# Altium footprint library Smirnov.PcbLib: 63 footprints (part 2 of 4)
Each footprint in its own frame and in the unit in brackets; x right, y up, seen from the top. Pads: shape width x height; smd on the part's side, far side on the other; paste and mask are expansions set on the pad; w line width, h text height; cw(c..) or ccw(c..) is an arc to the next point about the centre after c.
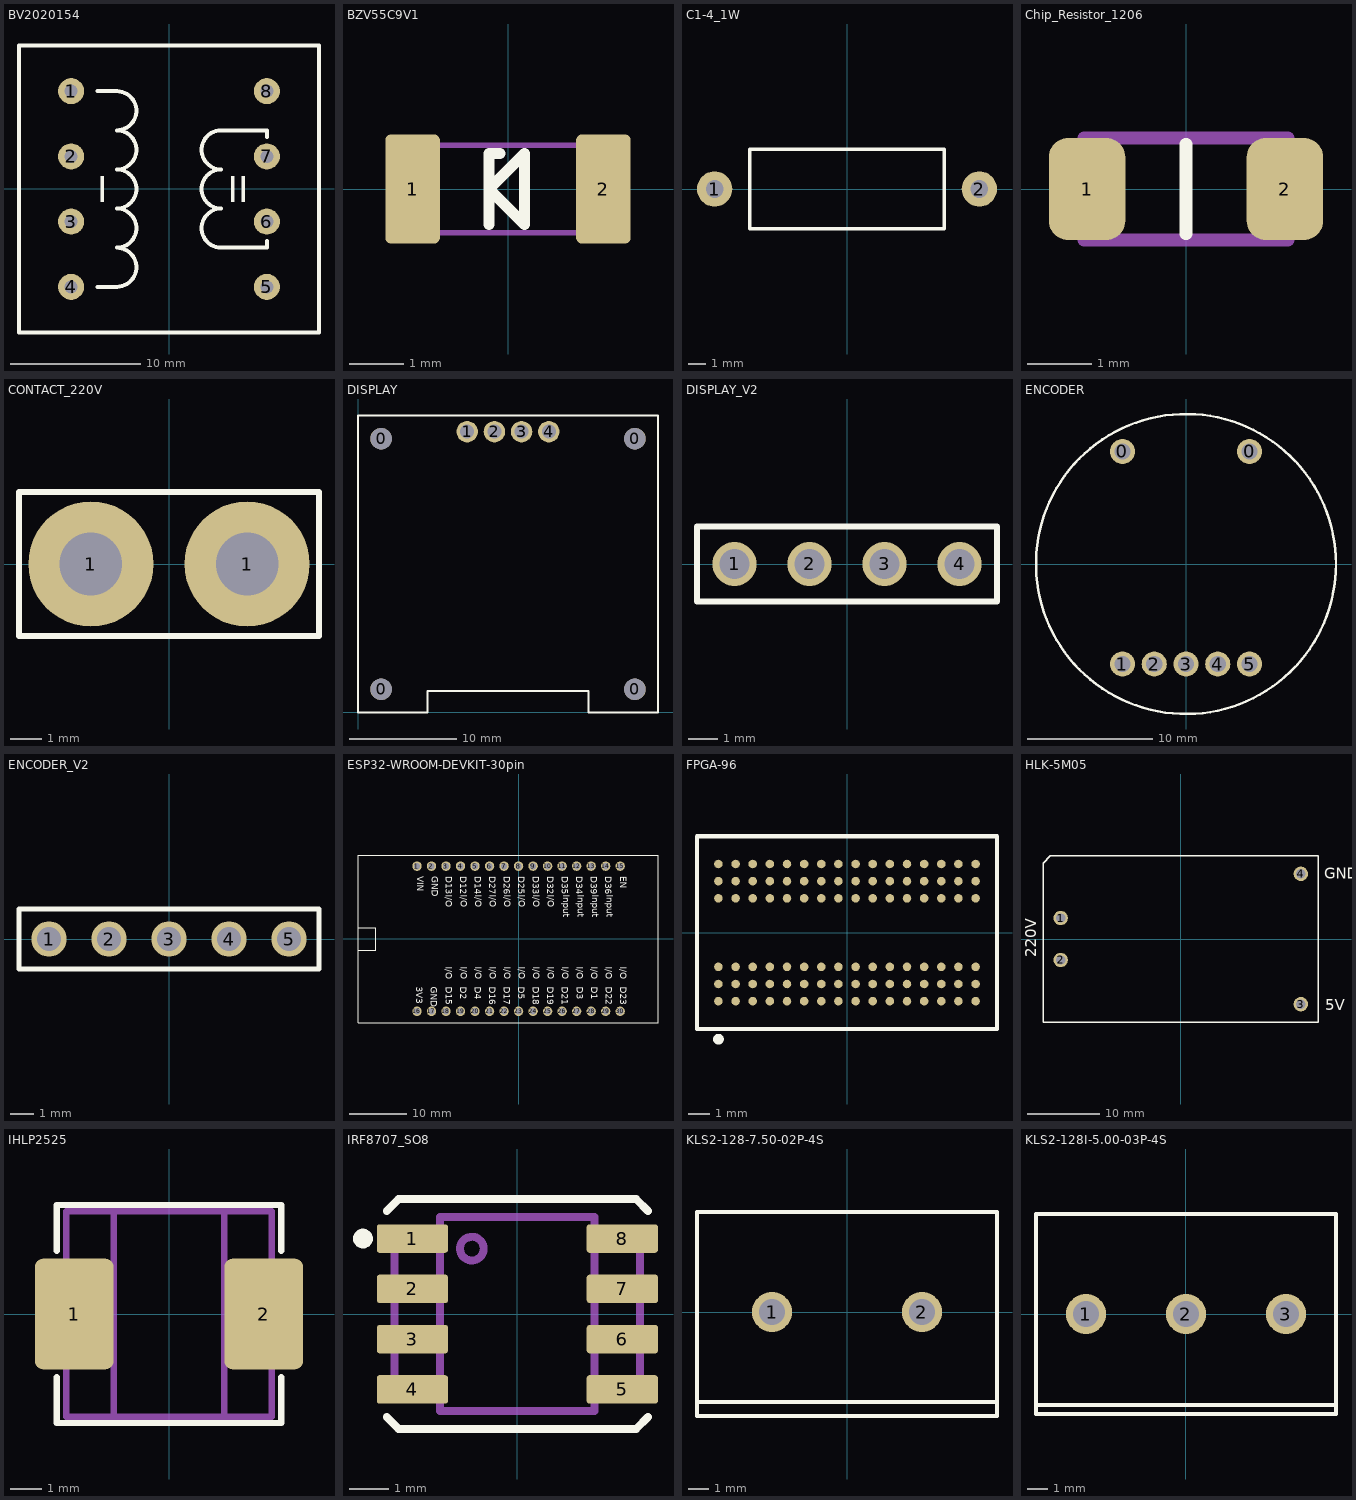
[diagram p1: the footprints below, top view; thin cyan lines are the x and y axes]

## BV2020154 [mm]
pads (8):
  round 2 hole 1: 1(-7.5,7.5) 2(-7.5,2.5) 3(-7.5,-2.5) 4(-7.5,-7.5) 5(7.5,-7.5) 6(7.5,-2.5) 7(7.5,2.5) 8(7.5,7.5)
Top Overlay:
  lines w0.3: -5.5,-7.5 -4,-7.5 ccw(c-4,-6) -4,-4.5 ccw(c-4,-3) -4,-1.5 ccw(c-4,0) -4,1.5 ccw(c-4,3) -4,4.5 ccw(c-4,6) -4,7.5 -5.5,7.5 ; 7.5,-4 7.5,-4.5 5.5,-4.5 4,-4.5 cw(c4,-3) 4,-1.5 cw(c4,0) 4,1.5 cw(c4,3) 4,4.5 5.5,4.5 7.5,4.5 7.5,4 ; -11.5,-11 -11.5,11 11.5,11 11.5,-11 -11.5,-11
  text "I" at -5.5,-1 h2
  text "II" at 4.5,-1 h2

## BZV55C9V1 [mm]
pads (2):
  rrect20% 1x2 smd: 1(-1.75,0) 2(1.75,0)
Top Overlay:
  lines w0.2: -0.35,-0.65 -0.35,0.65 -0.15,0.65 ; 0.3,-0.65 0.3,0.65 ; 0.3,-0.65 0.3,-0.65 ; 0.3,-0.65 -0.35,0 0.3,0.65 ; 0.3,0.65 0.3,0.65
Mechanical 13:
  lines w0.1: -1.55,-0.8 -1.55,0.8 ; 1.55,-0.8 1.55,0.8 ; -1.85,-0.8 -1.85,0.8 1.85,0.8 1.85,-0.8 -1.85,-0.8

## C1-4_1W [mm]
pads (2):
  round 2 hole 1: 1(-7.5,0) 2(7.5,0)
Top Overlay:
  lines w0.2: -5.5,-2.25 -5.5,2.25 5.5,2.25 5.5,-2.25 -5.5,-2.25

## Chip_Resistor_1206 [mm] "Chip Resistor size 1206"
height 0.55
pads (2):
  rrect50% 1.2x1.6 smd: 1(-1.55,0) 2(1.55,0)
Top Overlay:
  lines w0.2: 0,-0.7 0,0.7
Mechanical 13:
  lines w0.2: -1.6,-0.8 -1.6,0.8 1.6,0.8 1.6,-0.8 -1.6,-0.8
3D body "Chip_Resistor_1206.STEP": height 0.65, standoff 0, extent -1.55,-0.8 1.55,0.8

## CONTACT_220V [mm]
pads (2):
  round 4 hole 2: 1(-2.5,0) 1(2.5,0)
Top Overlay:
  lines w0.2: -4.8,-2.3 4.8,-2.3 4.8,2.3 -4.8,2.3 -4.8,-2.3

## DISPLAY [mm]
pads (8):
  round 2 hole 2: 0(2.15,2.15) 0(2.15,25.55) 0(25.85,2.15) 0(25.85,25.55)
  round 2 hole 1.3: 1(10.19,26.2) 2(12.73,26.2) 3(15.27,26.2) 4(17.81,26.2)
Top Overlay:
  lines w0.2: 0,0 0,27.7 28,27.7 28,0 21.5,0 21.5,2 6.5,2 6.5,0 0,0
3D body "I2C Дисплей.stp": height 14.2, standoff -3.04, extent 0.15,-0.3 27.85,27.7

## DISPLAY_V2 [mm]
pads (4):
  round 1.5 hole 1: 1(-3.81,0) 2(-1.27,0) 3(1.27,0) 4(3.81,0)
Top Overlay:
  lines w0.2: -5.08,-1.27 5.08,-1.27 5.08,0 5.08,1.27 -5.08,1.27 -5.08,-1.27
3D body "022284041.stp": height 10.41, standoff -3.05, extent -5.08,-1.244 5.08,1.245

## ENCODER [mm]
pads (7):
  round 2 hole 1.3: 0(-5.08,9) 0(5.08,9) 1(-5.08,-8) 2(-2.54,-8) 3(0,-8) 4(2.54,-8) 5(5.08,-8)
Top Overlay:
  circle w0.2: c0,0 r12
3D body "Энкодер.stp": height 38.4, standoff -3, extent -12,-11.995 12,11.995

## ENCODER_V2 [mm]
pads (5):
  round 1.5 hole 1: 1(-5.08,0) 2(-2.54,0) 3(0,0) 4(2.54,0) 5(5.08,0)
Top Overlay:
  lines w0.2: -6.35,-1.27 6.35,-1.27 6.35,1.27 -6.35,1.27 -6.35,-1.27
3D body "022284051.stp": height 10.41, standoff -3.05, extent -6.35,-1.244 6.35,1.245

## ESP32-WROOM-DEVKIT-30pin [mm] "7 leads, straight connector, socket header, 17.78x2.54 mm"
height 8.4
pads (30):
  round 1.65 hole 1.1 mask+0.1: 1(-17.78,12.7) 2(-15.24,12.7) 3(-12.7,12.7) 4(-10.16,12.7) 5(-7.62,12.7) 6(-5.08,12.7) 7(-2.54,12.7) 8(0,12.7) 9(2.54,12.7) 10(5.08,12.7) 11(7.62,12.7) 12(10.16,12.7) 13(12.7,12.7) 14(15.24,12.7) 15(17.78,12.7) 16(-17.78,-12.7) 17(-15.24,-12.7) 18(-12.7,-12.7) 19(-10.16,-12.7) 20(-7.62,-12.7) 21(-5.08,-12.7) 22(-2.54,-12.7) 23(0,-12.7) 24(2.54,-12.7) 25(5.08,-12.7) 26(7.62,-12.7) 27(10.16,-12.7) 28(12.7,-12.7) 29(15.24,-12.7) 30(17.78,-12.7)
Top Overlay:
  lines w0.2: -28.1,-2.05 -24.95,-2.05 -24.95,1.95 -28.1,1.95 ; -28.1,-14.7 -28.1,14.6 24.4,14.6 24.4,-14.7 -28.1,-14.7
  text "GND" at -15.805,-8.43 h2
  text "3V3" at -18.339,-8.43 h2
  text "D23" at 17.32,-8.43 h2
  text "D22" at 14.78,-8.43 h2
  text "D21" at 7.159,-8.43 h2
  text "D19" at 4.619,-8.43 h2
  text "D17" at -3.001,-8.43 h2
  text "D16" at -5.541,-8.43 h2
  text "D15" at -13.161,-8.43 h2
  text "I/O" at 17.342,-4.93 h2
  text "I/O" at 14.802,-4.93 h2
  text "I/O" at 4.642,-4.93 h2
  text "I/O" at 7.182,-4.93 h2
  text "I/O" at -5.518,-4.93 h2
  text "I/O" at -2.978,-4.93 h2
  text "I/O" at -13.138,-4.93 h2
  text "D18" at 2.079,-8.43 h2
  text "D1" at 12.239,-8.43 h2
  text "I/O" at 12.262,-4.93 h2
  text "D3" at 9.7,-8.43 h2
  text "I/O" at 9.722,-4.93 h2
  text "I/O" at 2.102,-4.93 h2
  text "D5" at -0.46,-8.43 h2
  text "I/O" at -0.438,-4.93 h2
  text "D4" at -8.081,-8.43 h2
  text "I/O" at -8.058,-4.93 h2
  text "D2" at -10.62,-8.43 h2
  text "I/O" at -10.598,-4.93 h2
  text "EN" at 17.353,10.9 h2
  text "D36" at 14.73,10.9 h2
  text "D35" at 7.11,10.9 h2
  text "D32" at 4.57,10.9 h2
  text "D26" at -3.05,10.9 h2
  text "D27" at -5.59,10.9 h2
  text "D13" at -13.211,10.9 h2
  text "GND" at -15.655,10.9 h2
  text "D39" at 12.19,10.9 h2
  text "D34" at 9.649,10.9 h2
  text "D33" at 2.03,10.9 h2
  text "D25" at -0.51,10.9 h2
  text "D14" at -8.131,10.9 h2
  text "D12" at -10.671,10.9 h2
  text "VIN" at -18.195,10.9 h2
  text "Input" at 15.021,7.67 h2
  text "Input" at 7.401,7.67 h2
  text "I/O" at 4.642,7.67 h2
  text "I/O" at -5.518,7.67 h2
  text "I/O" at -2.978,7.67 h2
  text "I/O" at -13.138,7.67 h2
  text "Input" at 12.481,7.67 h2
  text "Input" at 9.941,7.67 h2
  text "I/O" at 2.102,7.67 h2
  text "I/O" at -0.438,7.67 h2
  text "I/O" at -8.058,7.67 h2
  text "I/O" at -10.598,7.67 h2
Bottom Overlay:
  text "GND" at -15.755,-11.27 h2
  text "3V3" at -18.289,-11.27 h2
  text "EN" at 17.253,8.25 h2
  text "D36" at 14.73,8.25 h2
  text "D35" at 7.11,8.25 h2
  text "D32" at 4.57,8.25 h2
  text "D26" at -3.05,8.25 h2
  text "D27" at -5.59,8.25 h2
  text "D13" at -13.211,8.25 h2
  text "GND" at -15.755,8.25 h2
  text "D39" at 12.19,8.25 h2
  text "D34" at 9.649,8.25 h2
  text "D33" at 2.03,8.25 h2
  text "D25" at -0.51,8.25 h2
  text "D14" at -8.131,8.25 h2
  text "D12" at -10.671,8.25 h2
  text "VIN" at -18.295,8.25 h2
  text "Input" at 14.921,4.03 h2
  text "Input" at 7.301,4.03 h2
  text "I/O" at 4.542,4.83 h2
  text "I/O" at -5.618,4.83 h2
  text "I/O" at -3.078,4.83 h2
  text "I/O" at -13.238,4.83 h2
  text "Input" at 12.381,4.03 h2
  text "Input" at 9.841,4.03 h2
  text "I/O" at 2.002,4.83 h2
  text "I/O" at -0.538,4.83 h2
  text "I/O" at -8.158,4.83 h2
  text "I/O" at -10.698,4.83 h2
  text "D23" at 17.27,-11.27 h2
  text "D22" at 14.73,-11.27 h2
  text "D21" at 7.109,-11.27 h2
  text "D19" at 4.569,-11.27 h2
  text "D17" at -3.051,-11.27 h2
  text "D16" at -5.591,-11.27 h2
  text "D15" at -13.211,-11.27 h2
  text "I/O" at 17.242,-7.62 h2
  text "I/O" at 14.702,-7.62 h2
  text "I/O" at 4.542,-7.62 h2
  text "I/O" at 7.082,-7.62 h2
  text "I/O" at -5.618,-7.62 h2
  text "I/O" at -3.078,-7.62 h2
  text "I/O" at -13.238,-7.62 h2
  text "D18" at 2.029,-11.27 h2
  text "D1" at 12.189,-11.27 h2
  text "I/O" at 12.162,-7.62 h2
  text "D3" at 9.65,-11.27 h2
  text "I/O" at 9.622,-7.62 h2
  text "I/O" at 2.002,-7.62 h2
  text "D5" at -0.51,-11.27 h2
  text "I/O" at -0.538,-7.62 h2
  text "D4" at -8.131,-11.27 h2
  text "I/O" at -8.158,-7.62 h2
  text "D2" at -10.67,-11.27 h2
  text "I/O" at -10.698,-7.62 h2
3D body "esp32_dev_kit_v1_asm.stp": height 9.47, standoff -5.54, extent -27.53,-14.075 23.97,14.075

## FPGA-96 [mm]
pads (96):
  round 0.399 smd paste+0 mask+0: A1(-6,-3.2) A2(-6,-2.4) A3(-6,-1.6) A7(-6,1.6) A8(-6,2.4) A9(-6,3.2) B1(-5.2,-3.2) B2(-5.2,-2.4) B3(-5.2,-1.6) B7(-5.2,1.6) B8(-5.2,2.4) B9(-5.2,3.2) C1(-4.4,-3.2) C2(-4.4,-2.4) C3(-4.4,-1.6) C7(-4.4,1.6) C8(-4.4,2.4) C9(-4.4,3.2) D1(-3.6,-3.2) D2(-3.6,-2.4) D3(-3.6,-1.6) D7(-3.6,1.6) D8(-3.6,2.4) D9(-3.6,3.2) E1(-2.8,-3.2) E2(-2.8,-2.4) E3(-2.8,-1.6) E7(-2.8,1.6) E8(-2.8,2.4) E9(-2.8,3.2) F1(-2,-3.2) F2(-2,-2.4) F3(-2,-1.6) F7(-2,1.6) F8(-2,2.4) F9(-2,3.2) G1(-1.2,-3.2) G2(-1.2,-2.4) G3(-1.2,-1.6) G7(-1.2,1.6) G8(-1.2,2.4) G9(-1.2,3.2) H1(-0.4,-3.2) H2(-0.4,-2.4) H3(-0.4,-1.6) H7(-0.4,1.6) H8(-0.4,2.4) H9(-0.4,3.2) J1(0.4,-3.2) J2(0.4,-2.4) J3(0.4,-1.6) J7(0.4,1.6) J8(0.4,2.4) J9(0.4,3.2) K1(1.2,-3.2) K2(1.2,-2.4) K3(1.2,-1.6) K7(1.2,1.6) K8(1.2,2.4) K9(1.2,3.2) L1(2,-3.2) L2(2,-2.4) L3(2,-1.6) L7(2,1.6) L8(2,2.4) L9(2,3.2) M1(2.8,-3.2) M2(2.8,-2.4) M3(2.8,-1.6) M7(2.8,1.6) M8(2.8,2.4) M9(2.8,3.2) N1(3.6,-3.2) N2(3.6,-2.4) N3(3.6,-1.6) N7(3.6,1.6) N8(3.6,2.4) N9(3.6,3.2) P1(4.4,-3.2) P2(4.4,-2.4) P3(4.4,-1.6) P7(4.4,1.6) P8(4.4,2.4) P9(4.4,3.2) R1(5.2,-3.2) R2(5.2,-2.4) R3(5.2,-1.6) R7(5.2,1.6) R8(5.2,2.4) R9(5.2,3.2) T1(6,-3.2) T2(6,-2.4) T3(6,-1.6) T7(6,1.6) T8(6,2.4) T9(6,3.2)
Top Overlay:
  circle w0.25: c-6,-4.975 r0.125
  lines w0.2: -7,-4.5 -7,4.5 7,4.5 7,-4.5 -7,-4.5

## HLK-5M05 [mm] "HLK-5M05"
pads (4):
  round 2 hole 1.3: 1(-16.6,2.9) 2(-16.6,-2.9) 3(16.6,-9) 4(16.6,9)
Top Overlay:
  lines w0.2: -19,-11.5 -19,10.5 -18,11.5 19,11.5 19,-11.5 -19,-11.5
  text "GND" at 19.85,8.35 h1.5
  text "5V" at 19.95,-9.85 h1.5
  text "220V" at -20,-2.5 h1.5
3D body "HLK-5M05.stp": height 18.01, standoff -3.1, extent -19,-11.5 19,11.5

## IHLP2525 [mm]
pads (2):
  rrect20% 2.5x3.5 smd: 1(-3,0) 2(3,0)
Top Overlay:
  lines w0.2: -3.55,-2 -3.55,-3.45 3.55,-3.45 3.55,-2 ; -3.55,2 -3.55,3.45 3.55,3.45 3.55,2
Mechanical 13:
  lines w0.2: -1.75,-3.25 -1.75,3.25 ; 1.75,-3.25 1.75,3.25 ; -3.25,-3.25 3.25,-3.25 3.25,3.25 -3.25,3.25 -3.25,-3.25
3D body "IHLP2525AH.STEP": height 1.69, standoff 0, extent -3.487,-3.32 3.487,3.35

## IRF8707_SO8 [mm] "8 pin, small outline integrated circuit (SOIC), 4.90x3.90 mm"
height 1.75
pads (8):
  rrect20% 1.8x0.72 smd mask+0.1: 1(-2.65,1.905) 2(-2.65,0.635) 3(-2.65,-0.635) 4(-2.65,-1.905) 5(2.65,-1.905) 6(2.65,-0.635) 7(2.65,0.635) 8(2.65,1.905)
Top Overlay:
  circle w0.25: c-3.9,1.905 r0.125
  lines w0.2: -3.3,-2.6 -3,-2.9 3,-2.9 3.3,-2.6 ; -3.3,2.6 -3,2.9 3,2.9 3.3,2.6
Mechanical 13:
  circle w0.2: c-1.15,1.65 r0.3
  lines w0.2: -1.95,-1.905 -3.1,-1.905 -3.1,1.905 -1.95,1.905 ; 1.95,-1.905 3.1,-1.905 3.1,1.905 1.95,1.905 ; -1.95,-2.45 1.95,-2.45 1.95,2.45 -1.95,2.45 -1.95,-2.45
3D body "SO-8.stp": height 1.76, standoff 0, extent -3,-2.45 3,2.45

## KLS2-128-7.50-02P-4S [mm] "KLS2-128-7.50-02P-4S"
pads (2):
  round 2 hole 1.3: 1(-3.75,0) 2(3.75,0)
Top Overlay:
  lines w0.2: -7.5,-4.5 7.5,-4.5 ; -7.5,-5.2 -7.5,5 7.5,5 7.5,-5.2 -7.5,-5.2
3D body "KLS2-128-7.stp": height 12.4, standoff -3.4, extent -7.5,-5.2 7.5,5

## KLS2-128I-5.00-03P-4S [mm]
pads (3):
  round 2 hole 1.3: 1(-5,0) 2(0,0) 3(5,0)
Top Overlay:
  lines w0.2: -7.5,-4.55 7.5,-4.55 ; -7.5,-5 -7.5,5 7.5,5 7.5,-5 -7.5,-5
3D body "KLS2-128I-5.00-03P-4S.stp": height 12.4, standoff -3.4, extent -7.5,-5.2 7.5,5